# Altium footprint library KS_SW_0.PcbLib: 1 footprints
Each footprint in its own frame and in the unit in brackets; x right, y up, seen from the top. Pads: shape width x height; smd on the part's side, far side on the other; paste and mask are expansions set on the pad; w line width, h text height; cw(c..) or ccw(c..) is an arc to the next point about the centre after c.
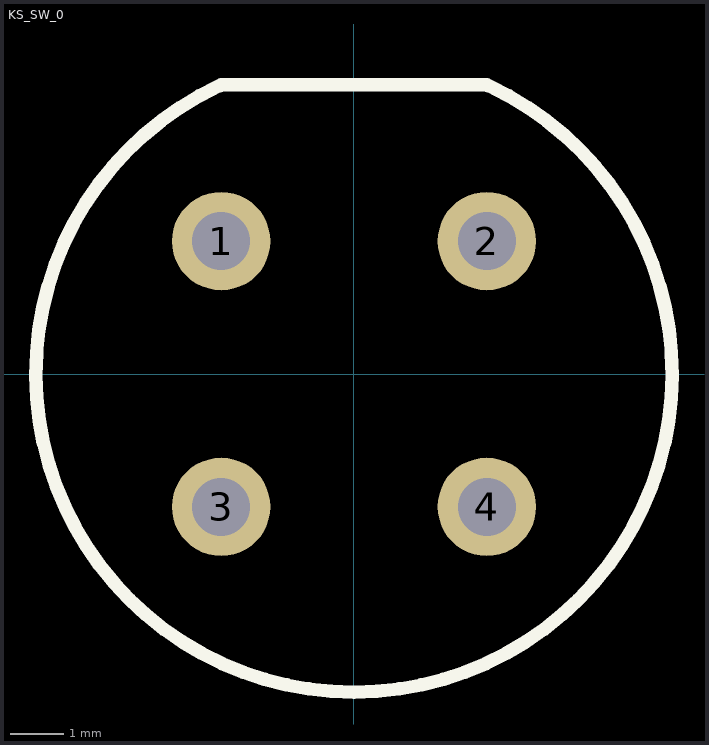
[diagram p0: the footprint, top view; thin cyan lines are the x and y axes]

## KS_SW_0 [mil] "E-Switch KS Series Switches, 5mm Square"
pads (4):
  round 73 hole 43: 1(-98.43,98.57) 2(98.57,98.57) 3(-98.43,-98.43) 4(98.57,-98.43)
Top Overlay:
  lines w10: -99.66,213.96 ccw(c0.07,0.07) 99.81,213.96 ; -98.43,214.57 98.57,214.57
3D body "KS_SW.SLDPRT": height 564.96, standoff -135.83, extent -236.21,-234.25 236.2,218.5